# EAGLE library part MCP6002-E/MS (library MTM_untested)
Low-Power Op Amp
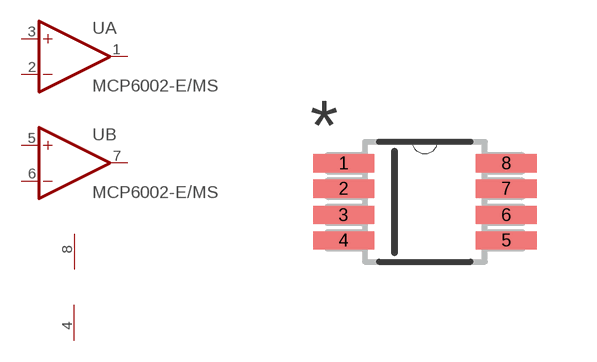
[diagram p2: symbol with the pads of SOP65P490X110-8N; footprint SOP65P490X110-8N]

Designator prefix U; gates A=OPAMP B=OPAMP PWR=PWR+-

## MCP6002-E/MS (MPN: MCP6002-E/MS; OC_FARNELL: 1840886; OC_NEWARK: 88H9854; PACKAGE: SOP-8; SUPPLIER: Microchip)  [SOP65P490X110-8N]
1  A:OUT  out
2  A:-IN  in
3  A:+IN  in
4  PWR:V-  pwr
5  B:+IN  in
6  B:-IN  in
7  B:OUT  out
8  PWR:V+  pwr

## Footprint SOP65P490X110-8N (pad centres in mm)
smd 1.524 x 0.457: 1 -2.032,0.965; 2 -2.032,0.33; 3 -2.032,-0.33; 4 -2.032,-0.965; 5 2.032,-0.965; 6 2.032,-0.33; 7 2.032,0.33; 8 2.032,0.965